# Altium schematic symbol library SCH - MCU - NUVOTON - NUVOTON M471KI8AE.SchLib: 1 symbol
Pins are listed as number, name and electrical type; pins without a type are passive.

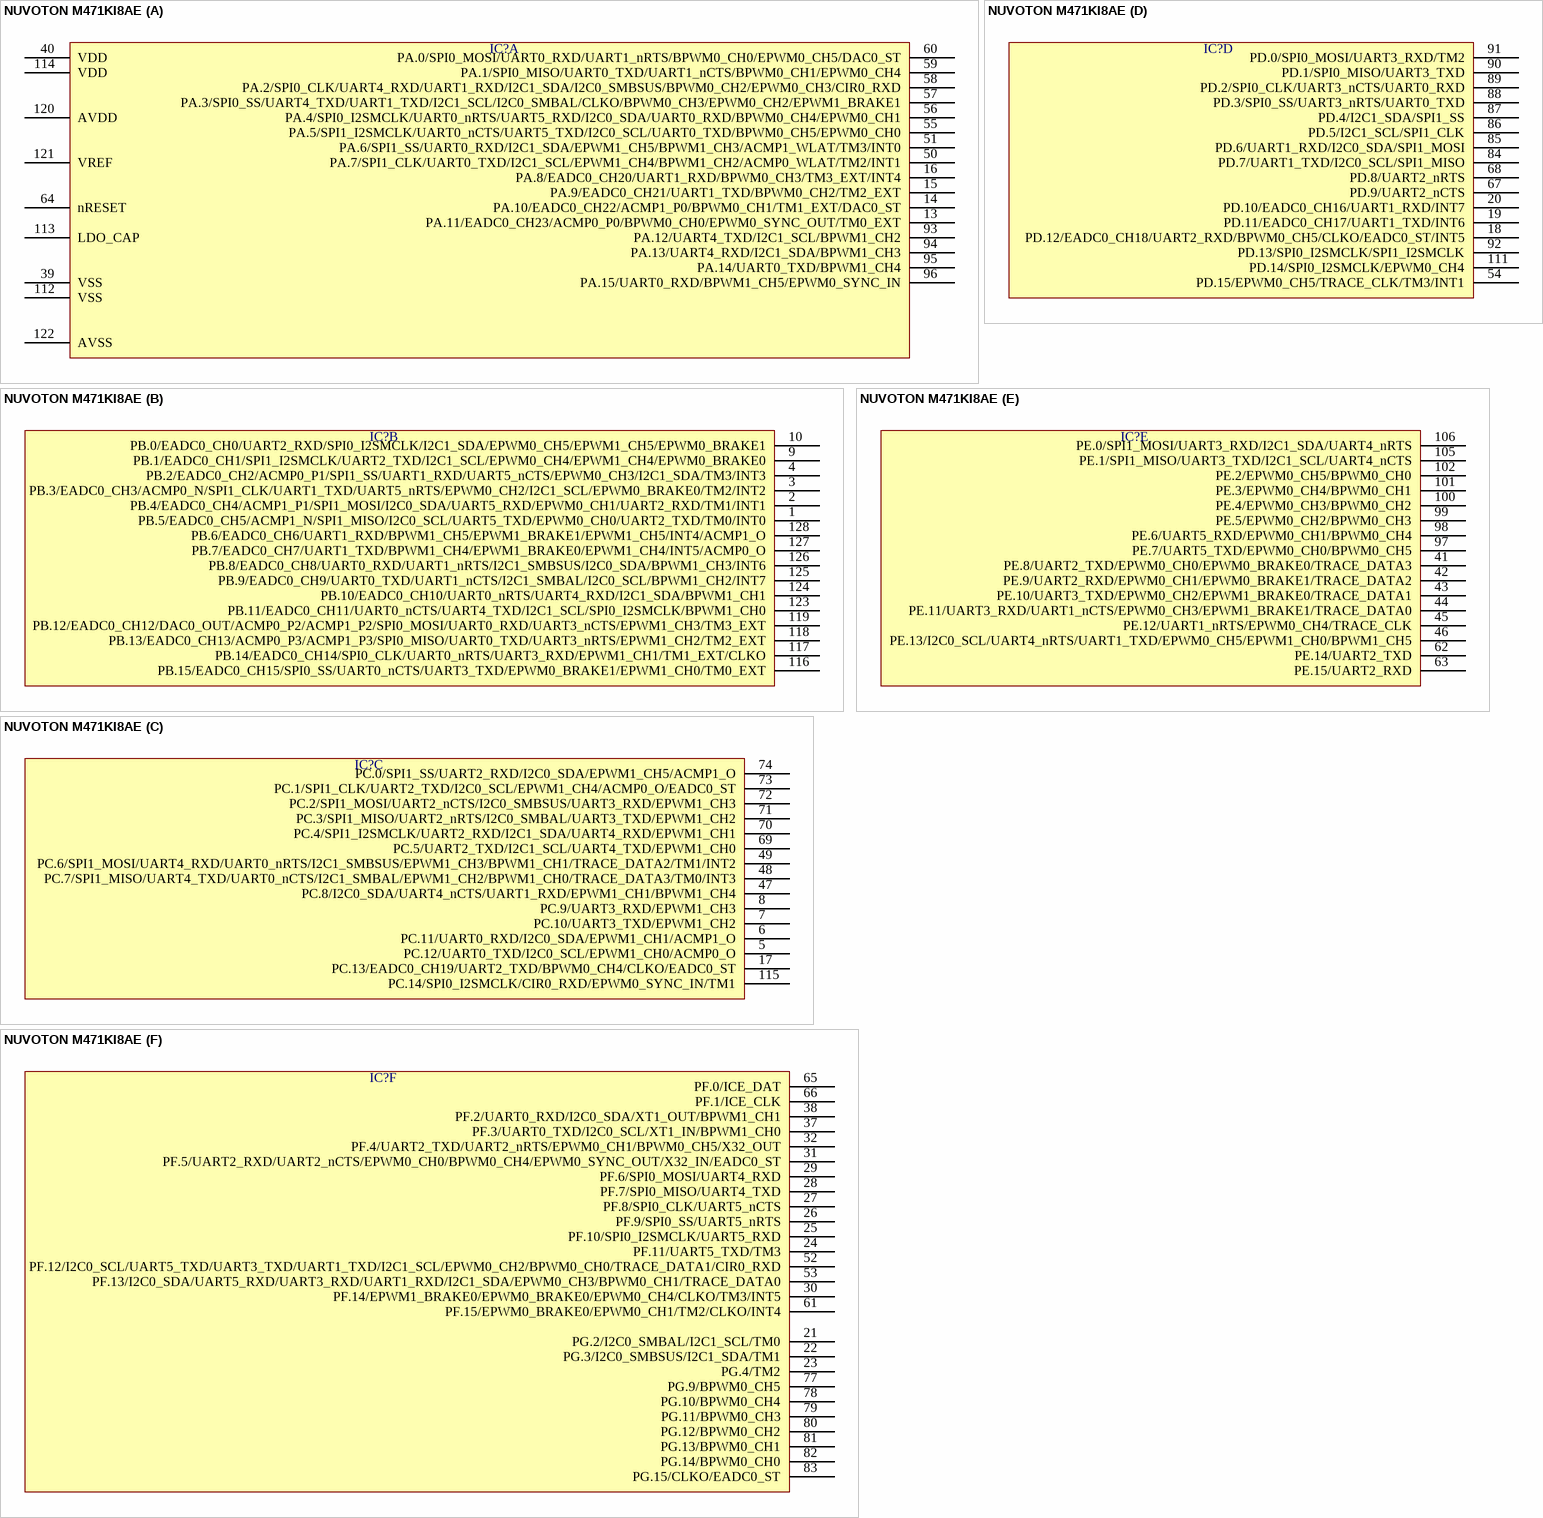
[diagram p0: symbol NUVOTON M471KI8AE]

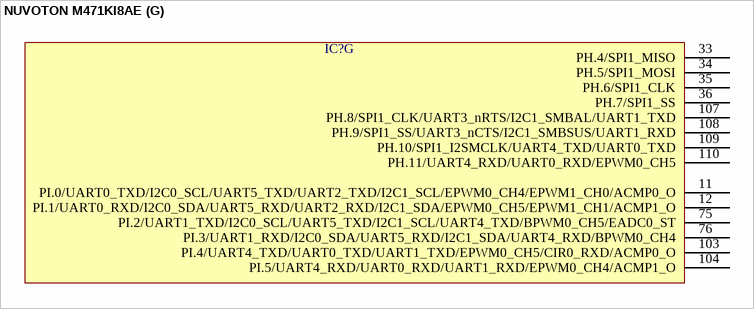
[diagram p1: symbol NUVOTON M471KI8AE]

## NUVOTON M471KI8AE
designator IC?  (value not drawn)
part A pins: 13 PA.11/EADC0_CH23/ACMP0_P0/BPWM0_CH0/EPWM0_SYNC_OUT/TM0_EXT, 14 PA.10/EADC0_CH22/ACMP1_P0/BPWM0_CH1/TM1_EXT/DAC0_ST, 15 PA.9/EADC0_CH21/UART1_TXD/BPWM0_CH2/TM2_EXT, 16 PA.8/EADC0_CH20/UART1_RXD/BPWM0_CH3/TM3_EXT/INT4, 39 VSS, 40 VDD, 50 PA.7/SPI1_CLK/UART0_TXD/I2C1_SCL/EPWM1_CH4/BPWM1_CH2/ACMP0_WLAT/TM2/INT1, 51 PA.6/SPI1_SS/UART0_RXD/I2C1_SDA/EPWM1_CH5/BPWM1_CH3/ACMP1_WLAT/TM3/INT0, 55 PA.5/SPI1_I2SMCLK/UART0_nCTS/UART5_TXD/I2C0_SCL/UART0_TXD/BPWM0_CH5/EPWM0_CH0, 56 PA.4/SPI0_I2SMCLK/UART0_nRTS/UART5_RXD/I2C0_SDA/UART0_RXD/BPWM0_CH4/EPWM0_CH1, 57 PA.3/SPI0_SS/UART4_TXD/UART1_TXD/I2C1_SCL/I2C0_SMBAL/CLKO/BPWM0_CH3/EPWM0_CH2/EPWM1_BRAKE1, 58 PA.2/SPI0_CLK/UART4_RXD/UART1_RXD/I2C1_SDA/I2C0_SMBSUS/BPWM0_CH2/EPWM0_CH3/CIR0_RXD, 59 PA.1/SPI0_MISO/UART0_TXD/UART1_nCTS/BPWM0_CH1/EPWM0_CH4, 60 PA.0/SPI0_MOSI/UART0_RXD/UART1_nRTS/BPWM0_CH0/EPWM0_CH5/DAC0_ST, 64 nRESET, 93 PA.12/UART4_TXD/I2C1_SCL/BPWM1_CH2, 94 PA.13/UART4_RXD/I2C1_SDA/BPWM1_CH3, 95 PA.14/UART0_TXD/BPWM1_CH4, 96 PA.15/UART0_RXD/BPWM1_CH5/EPWM0_SYNC_IN, 112 VSS, 113 LDO_CAP, 114 VDD, 120 AVDD, 121 VREF, 122 AVSS
part B pins: 1 PB.5/EADC0_CH5/ACMP1_N/SPI1_MISO/I2C0_SCL/UART5_TXD/EPWM0_CH0/UART2_TXD/TM0/INT0, 2 PB.4/EADC0_CH4/ACMP1_P1/SPI1_MOSI/I2C0_SDA/UART5_RXD/EPWM0_CH1/UART2_RXD/TM1/INT1, 3 PB.3/EADC0_CH3/ACMP0_N/SPI1_CLK/UART1_TXD/UART5_nRTS/EPWM0_CH2/I2C1_SCL/EPWM0_BRAKE0/TM2/INT2, 4 PB.2/EADC0_CH2/ACMP0_P1/SPI1_SS/UART1_RXD/UART5_nCTS/EPWM0_CH3/I2C1_SDA/TM3/INT3, 9 PB.1/EADC0_CH1/SPI1_I2SMCLK/UART2_TXD/I2C1_SCL/EPWM0_CH4/EPWM1_CH4/EPWM0_BRAKE0, 10 PB.0/EADC0_CH0/UART2_RXD/SPI0_I2SMCLK/I2C1_SDA/EPWM0_CH5/EPWM1_CH5/EPWM0_BRAKE1, 116 PB.15/EADC0_CH15/SPI0_SS/UART0_nCTS/UART3_TXD/EPWM0_BRAKE1/EPWM1_CH0/TM0_EXT, 117 PB.14/EADC0_CH14/SPI0_CLK/UART0_nRTS/UART3_RXD/EPWM1_CH1/TM1_EXT/CLKO, 118 PB.13/EADC0_CH13/ACMP0_P3/ACMP1_P3/SPI0_MISO/UART0_TXD/UART3_nRTS/EPWM1_CH2/TM2_EXT, 119 PB.12/EADC0_CH12/DAC0_OUT/ACMP0_P2/ACMP1_P2/SPI0_MOSI/UART0_RXD/UART3_nCTS/EPWM1_CH3/TM3_EXT, 123 PB.11/EADC0_CH11/UART0_nCTS/UART4_TXD/I2C1_SCL/SPI0_I2SMCLK/BPWM1_CH0, 124 PB.10/EADC0_CH10/UART0_nRTS/UART4_RXD/I2C1_SDA/BPWM1_CH1, 125 PB.9/EADC0_CH9/UART0_TXD/UART1_nCTS/I2C1_SMBAL/I2C0_SCL/BPWM1_CH2/INT7, 126 PB.8/EADC0_CH8/UART0_RXD/UART1_nRTS/I2C1_SMBSUS/I2C0_SDA/BPWM1_CH3/INT6, 127 PB.7/EADC0_CH7/UART1_TXD/BPWM1_CH4/EPWM1_BRAKE0/EPWM1_CH4/INT5/ACMP0_O, 128 PB.6/EADC0_CH6/UART1_RXD/BPWM1_CH5/EPWM1_BRAKE1/EPWM1_CH5/INT4/ACMP1_O
part C pins: 5 PC.12/UART0_TXD/I2C0_SCL/EPWM1_CH0/ACMP0_O, 6 PC.11/UART0_RXD/I2C0_SDA/EPWM1_CH1/ACMP1_O, 7 PC.10/UART3_TXD/EPWM1_CH2, 8 PC.9/UART3_RXD/EPWM1_CH3, 17 PC.13/EADC0_CH19/UART2_TXD/BPWM0_CH4/CLKO/EADC0_ST, 47 PC.8/I2C0_SDA/UART4_nCTS/UART1_RXD/EPWM1_CH1/BPWM1_CH4, 48 PC.7/SPI1_MISO/UART4_TXD/UART0_nCTS/I2C1_SMBAL/EPWM1_CH2/BPWM1_CH0/TRACE_DATA3/TM0/INT3, 49 PC.6/SPI1_MOSI/UART4_RXD/UART0_nRTS/I2C1_SMBSUS/EPWM1_CH3/BPWM1_CH1/TRACE_DATA2/TM1/INT2, 69 PC.5/UART2_TXD/I2C1_SCL/UART4_TXD/EPWM1_CH0, 70 PC.4/SPI1_I2SMCLK/UART2_RXD/I2C1_SDA/UART4_RXD/EPWM1_CH1, 71 PC.3/SPI1_MISO/UART2_nRTS/I2C0_SMBAL/UART3_TXD/EPWM1_CH2, 72 PC.2/SPI1_MOSI/UART2_nCTS/I2C0_SMBSUS/UART3_RXD/EPWM1_CH3, 73 PC.1/SPI1_CLK/UART2_TXD/I2C0_SCL/EPWM1_CH4/ACMP0_O/EADC0_ST, 74 PC.0/SPI1_SS/UART2_RXD/I2C0_SDA/EPWM1_CH5/ACMP1_O, 115 PC.14/SPI0_I2SMCLK/CIR0_RXD/EPWM0_SYNC_IN/TM1
part D pins: 18 PD.12/EADC0_CH18/UART2_RXD/BPWM0_CH5/CLKO/EADC0_ST/INT5, 19 PD.11/EADC0_CH17/UART1_TXD/INT6, 20 PD.10/EADC0_CH16/UART1_RXD/INT7, 54 PD.15/EPWM0_CH5/TRACE_CLK/TM3/INT1, 67 PD.9/UART2_nCTS, 68 PD.8/UART2_nRTS, 84 PD.7/UART1_TXD/I2C0_SCL/SPI1_MISO, 85 PD.6/UART1_RXD/I2C0_SDA/SPI1_MOSI, 86 PD.5/I2C1_SCL/SPI1_CLK, 87 PD.4/I2C1_SDA/SPI1_SS, 88 PD.3/SPI0_SS/UART3_nRTS/UART0_TXD, 89 PD.2/SPI0_CLK/UART3_nCTS/UART0_RXD, 90 PD.1/SPI0_MISO/UART3_TXD, 91 PD.0/SPI0_MOSI/UART3_RXD/TM2, 92 PD.13/SPI0_I2SMCLK/SPI1_I2SMCLK, 111 PD.14/SPI0_I2SMCLK/EPWM0_CH4
part E pins: 41 PE.8/UART2_TXD/EPWM0_CH0/EPWM0_BRAKE0/TRACE_DATA3, 42 PE.9/UART2_RXD/EPWM0_CH1/EPWM0_BRAKE1/TRACE_DATA2, 43 PE.10/UART3_TXD/EPWM0_CH2/EPWM1_BRAKE0/TRACE_DATA1, 44 PE.11/UART3_RXD/UART1_nCTS/EPWM0_CH3/EPWM1_BRAKE1/TRACE_DATA0, 45 PE.12/UART1_nRTS/EPWM0_CH4/TRACE_CLK, 46 PE.13/I2C0_SCL/UART4_nRTS/UART1_TXD/EPWM0_CH5/EPWM1_CH0/BPWM1_CH5, 62 PE.14/UART2_TXD, 63 PE.15/UART2_RXD, 97 PE.7/UART5_TXD/EPWM0_CH0/BPWM0_CH5, 98 PE.6/UART5_RXD/EPWM0_CH1/BPWM0_CH4, 99 PE.5/EPWM0_CH2/BPWM0_CH3, 100 PE.4/EPWM0_CH3/BPWM0_CH2, 101 PE.3/EPWM0_CH4/BPWM0_CH1, 102 PE.2/EPWM0_CH5/BPWM0_CH0, 105 PE.1/SPI1_MISO/UART3_TXD/I2C1_SCL/UART4_nCTS, 106 PE.0/SPI1_MOSI/UART3_RXD/I2C1_SDA/UART4_nRTS
part F pins: 21 PG.2/I2C0_SMBAL/I2C1_SCL/TM0, 22 PG.3/I2C0_SMBSUS/I2C1_SDA/TM1, 23 PG.4/TM2, 24 PF.11/UART5_TXD/TM3, 25 PF.10/SPI0_I2SMCLK/UART5_RXD, 26 PF.9/SPI0_SS/UART5_nRTS, 27 PF.8/SPI0_CLK/UART5_nCTS, 28 PF.7/SPI0_MISO/UART4_TXD, 29 PF.6/SPI0_MOSI/UART4_RXD, 30 PF.14/EPWM1_BRAKE0/EPWM0_BRAKE0/EPWM0_CH4/CLKO/TM3/INT5, 31 PF.5/UART2_RXD/UART2_nCTS/EPWM0_CH0/BPWM0_CH4/EPWM0_SYNC_OUT/X32_IN/EADC0_ST, 32 PF.4/UART2_TXD/UART2_nRTS/EPWM0_CH1/BPWM0_CH5/X32_OUT, 37 PF.3/UART0_TXD/I2C0_SCL/XT1_IN/BPWM1_CH0, 38 PF.2/UART0_RXD/I2C0_SDA/XT1_OUT/BPWM1_CH1, 52 PF.12/I2C0_SCL/UART5_TXD/UART3_TXD/UART1_TXD/I2C1_SCL/EPWM0_CH2/BPWM0_CH0/TRACE_DATA1/CIR0_RXD, 53 PF.13/I2C0_SDA/UART5_RXD/UART3_RXD/UART1_RXD/I2C1_SDA/EPWM0_CH3/BPWM0_CH1/TRACE_DATA0, 61 PF.15/EPWM0_BRAKE0/EPWM0_CH1/TM2/CLKO/INT4, 65 PF.0/ICE_DAT, 66 PF.1/ICE_CLK, 77 PG.9/BPWM0_CH5, 78 PG.10/BPWM0_CH4, 79 PG.11/BPWM0_CH3, 80 PG.12/BPWM0_CH2, 81 PG.13/BPWM0_CH1, 82 PG.14/BPWM0_CH0, 83 PG.15/CLKO/EADC0_ST
part G pins: 11 PI.0/UART0_TXD/I2C0_SCL/UART5_TXD/UART2_TXD/I2C1_SCL/EPWM0_CH4/EPWM1_CH0/ACMP0_O, 12 PI.1/UART0_RXD/I2C0_SDA/UART5_RXD/UART2_RXD/I2C1_SDA/EPWM0_CH5/EPWM1_CH1/ACMP1_O, 33 PH.4/SPI1_MISO, 34 PH.5/SPI1_MOSI, 35 PH.6/SPI1_CLK, 36 PH.7/SPI1_SS, 75 PI.2/UART1_TXD/I2C0_SCL/UART5_TXD/I2C1_SCL/UART4_TXD/BPWM0_CH5/EADC0_ST, 76 PI.3/UART1_RXD/I2C0_SDA/UART5_RXD/I2C1_SDA/UART4_RXD/BPWM0_CH4, 103 PI.4/UART4_TXD/UART0_TXD/UART1_TXD/EPWM0_CH5/CIR0_RXD/ACMP0_O, 104 PI.5/UART4_RXD/UART0_RXD/UART1_RXD/EPWM0_CH4/ACMP1_O, 107 PH.8/SPI1_CLK/UART3_nRTS/I2C1_SMBAL/UART1_TXD, 108 PH.9/SPI1_SS/UART3_nCTS/I2C1_SMBSUS/UART1_RXD, 109 PH.10/SPI1_I2SMCLK/UART4_TXD/UART0_TXD, 110 PH.11/UART4_RXD/UART0_RXD/EPWM0_CH5